# Altium footprint library PAL2.PcbLib: 132 footprints (part 3 of 9)
Each footprint in its own frame and in the unit in brackets; x right, y up, seen from the top. Pads: shape width x height; smd on the part's side, far side on the other; paste and mask are expansions set on the pad; w line width, h text height; cw(c..) or ccw(c..) is an arc to the next point about the centre after c.
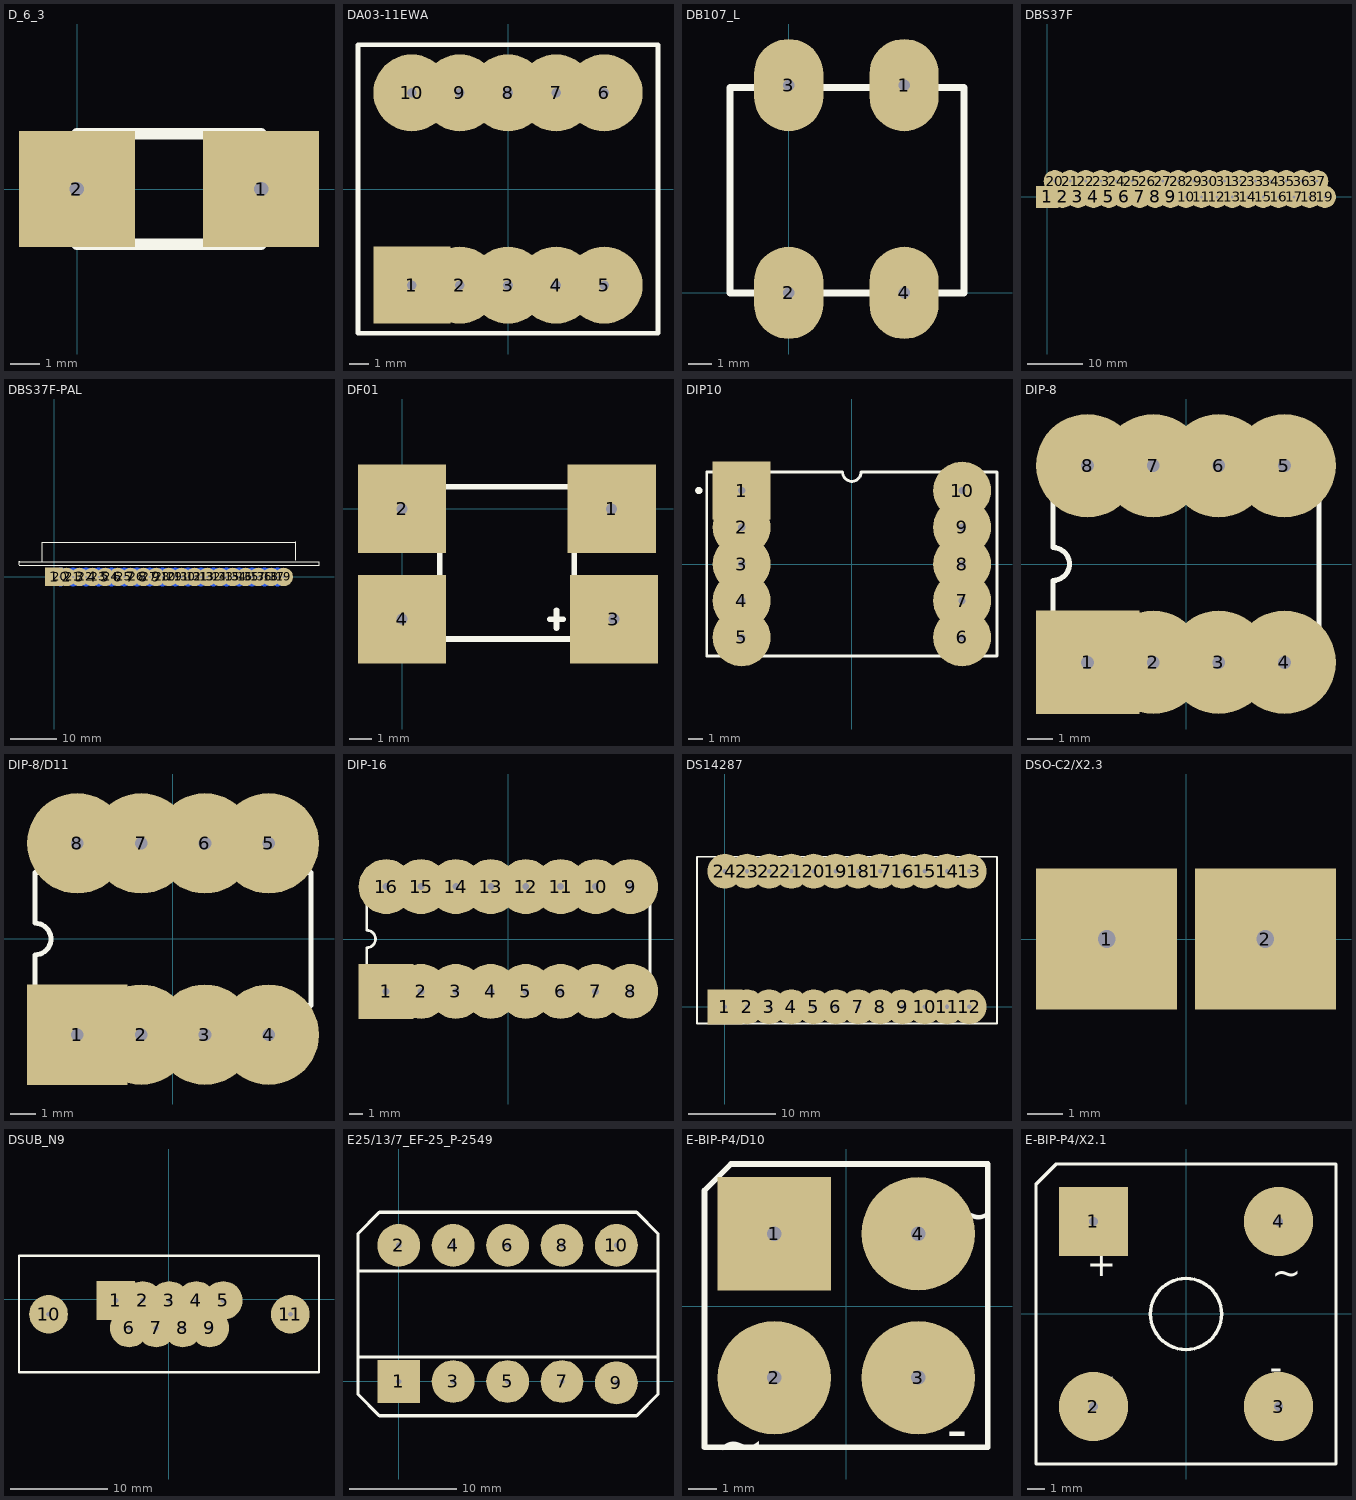
[diagram p2: the footprints below, top view; thin cyan lines are the x and y axes]

## D_6_3 [mm]
pads (2):
  rect 4x4 on Top hole 0.5: 1(6.341,0.006) 2(-0.009,0.006)
Top Overlay:
  lines w0.4: 1.261,-1.899 1.261,1.911 ; -0.009,-1.899 6.341,-1.899 6.341,1.911 -0.009,1.911 -0.009,0.006 -0.009,-1.899

## DA03-11EWA [mm]
pads (10):
  rect 4x4 hole 0.5: 1(-5,-5)
  round 4 hole 0.5: 2(-2.5,-5) 3(0,-5) 4(2.5,-5) 5(5,-5) 6(5,5) 7(2.5,5) 8(0,5) 9(-2.5,5) 10(-5,5)
Top Overlay:
  lines w0.254: -7.8,-7.5 7.8,-7.5 7.8,7.5 -7.8,7.5 -7.8,-7.5

## DB107_L [mm]
pads (4):
  oval 3x4 hole 0.5: 1(5,9) 2(0,0) 3(0,9) 4(5,0)
Top Overlay:
  lines w0.3: -2.55,0 7.6,0 7.6,8.9 -2.55,8.9 -2.55,0

## DBS37F [mm]
pads (37):
  rect 4x4 hole 0.5: 1(0,0)
  round 4 hole 0.5: 2(2.77,0) 3(5.54,0) 4(8.31,0) 5(11.08,0) 6(13.85,0) 7(16.62,0) 8(19.39,0) 9(22.16,0) 10(24.93,0) 11(27.7,0) 12(30.47,0) 13(33.24,0) 14(36.01,0) 15(38.78,0) 16(41.55,0) 17(44.32,0) 18(47.09,0) 19(49.86,0) 20(1.38,2.84) 21(4.15,2.84) 22(6.92,2.84) 23(9.69,2.84) 24(12.46,2.84) 25(15.23,2.84) 26(18,2.84) 27(20.77,2.84) 28(23.54,2.84) 29(26.31,2.84) 30(29.08,2.84) 31(31.85,2.84) 32(34.62,2.84) 33(37.39,2.84) 34(40.16,2.84) 35(42.93,2.84) 36(45.7,2.84) 37(48.47,2.84)

## DBS37F-PAL [mm]
pads (37):
  rect 4x4 on Top hole 0.5: 1(0,0)
  round 4 on Top hole 0.5: 2(2.77,0) 3(5.54,0) 4(8.31,0) 5(11.08,0) 6(13.85,0) 7(16.62,0) 8(19.39,0) 9(22.16,0) 10(24.93,0) 11(27.7,0) 12(30.47,0) 13(33.24,0) 14(36.01,0) 15(38.78,0) 16(41.55,0) 17(44.32,0) 18(47.09,0) 19(49.86,0)
  round 4 on Bottom hole 0.5: 20(1.38,0) 21(4.15,0) 22(6.92,0) 23(9.69,0) 24(12.46,0) 25(15.23,0) 26(18,0) 27(20.77,0) 28(23.54,0) 29(26.31,0) 30(29.08,0) 31(31.85,0) 32(34.62,0) 33(37.39,0) 34(40.16,0) 35(42.93,0) 36(45.7,0) 37(48.47,0)
Top Overlay:
  lines w0.254: -7.6,2.6 -7.6,3.4 -7.5,3.3 57.5,3.3 57.5,2.5 -7.5,2.5 ; -2.6,3.4 -2.6,7.5 52.4,7.5 52.5,7.6 52.5,3.6

## DF01 [mm]
pads (4):
  rect 4x4 on Top hole 0.5: 1(9.496,0.002) 2(-0.004,0.002) 3(9.596,-4.998) 4(-0.004,-4.998)
Top Overlay:
  lines w0.254: 6.696,-4.998 7.296,-4.998 ; 6.996,-5.398 6.996,-4.598 ; 1.696,-5.898 7.796,-5.898 7.796,1.002 1.696,1.002 1.696,-5.898

## DIP10 [mm]
pads (10):
  rect 4x4 hole 0.5: 1(-7.626,5.086)
  round 4 hole 0.5: 2(-7.626,2.546) 3(-7.626,0.006) 4(-7.626,-2.534) 5(-7.626,-5.074) 6(7.614,-5.074) 7(7.614,-2.534) 8(7.614,0.006) 9(7.614,2.546) 10(7.614,5.086)
Top Overlay:
  circle w0.25: c-10.588,5.084 r0.125
  lines w0.2: -10.041,-6.344 -10.041,6.356 -0.641,6.356 ccw(c-0.006,6.356) 0.629,6.356 10.029,6.356 10.029,-6.344 -10.041,-6.344

## DIP-8 [mm]
pads (8):
  rect 4x4 hole 0.5: 1(-3.817,-3.8)
  round 4 hole 0.5: 2(-1.277,-3.8) 3(1.263,-3.8) 4(3.803,-3.8) 5(3.803,3.82) 6(1.263,3.82) 7(-1.277,3.82) 8(-3.817,3.82)
Top Overlay:
  lines w0.2: -5.157,-2.64 5.143,-2.64 5.143,2.66 -5.157,2.66 -5.157,0.645 cw(c-5.157,0.01) -5.157,-0.625 -5.157,-2.64

## DIP-8/D11 [mm]
pads (8):
  rect 4x4 hole 0.5: 1(-3.803,-3.816)
  round 4 hole 0.5: 2(-1.263,-3.816) 3(1.277,-3.816) 4(3.817,-3.816) 5(3.817,3.804) 6(1.277,3.804) 7(-1.263,3.804) 8(-3.803,3.804)
Top Overlay:
  lines w0.2: -5.493,-2.656 -5.493,-0.641 ccw(c-5.493,-0.006) -5.493,0.629 -5.493,2.644 5.507,2.644 5.507,-2.656 -5.493,-2.656

## DIP-16 [mm]
pads (16):
  rect 4x4 hole 0.5: 1(-8.888,-3.802)
  round 4 hole 0.5: 2(-6.348,-3.802) 3(-3.808,-3.802) 4(-1.268,-3.802) 5(1.272,-3.802) 6(3.812,-3.802) 7(6.352,-3.802) 8(8.892,-3.802) 9(8.892,3.818) 10(6.352,3.818) 11(3.812,3.818) 12(1.272,3.818) 13(-1.268,3.818) 14(-3.808,3.818) 15(-6.348,3.818) 16(-8.888,3.818)
Top Overlay:
  lines w0.2: -10.298,-2.642 -10.298,-0.627 ccw(c-10.298,0.008) -10.298,0.643 -10.298,2.658 10.302,2.658 10.302,-2.642 -10.298,-2.642

## DS14287 [mm]
pads (24):
  rect 4x4 hole 0.5: 1(0.009,-0.011)
  round 4 hole 0.5: 2(2.549,-0.011) 3(5.089,-0.011) 4(7.629,-0.011) 5(10.169,-0.011) 6(12.709,-0.011) 7(15.249,-0.011) 8(17.789,-0.011) 9(20.329,-0.011) 10(22.869,-0.011) 11(25.409,-0.011) 12(27.949,-0.011) 13(27.949,15.483) 14(25.409,15.483) 15(22.869,15.483) 16(20.329,15.483) 17(17.789,15.483) 18(15.249,15.483) 19(12.709,15.483) 20(10.169,15.483) 21(7.629,15.483) 22(5.089,15.483) 23(2.549,15.483) 24(0.009,15.483)
Top Overlay:
  lines w0.2: -3.166,-1.916 0.009,-1.916 31.124,-1.916 31.124,17.134 -3.166,17.134 -3.166,-1.916

## DSO-C2/X2.3 [mm]
pads (2):
  rect 4x4 on Top hole 0.5: 1(-2.252,0.001) 2(2.248,0.001)
Top Overlay:
  lines w0.2: -1.202,-1.549 -3.802,-1.549 -3.802,1.551 -1.202,1.551 ; 1.198,-1.549 3.638,-1.549 4.098,-1.099 4.098,1.101 3.648,1.551 ; 1.198,1.551 3.638,1.551

## DSUB_N9 [mm]
pads (11):
  rect 4x4 hole 0.5: 1(-5.481,-0.116)
  round 4 hole 0.5: 2(-2.711,-0.116) 3(0.059,-0.116) 4(2.829,-0.116) 5(5.599,-0.116) 6(-4.096,-2.956) 7(-1.326,-2.956) 8(1.444,-2.956) 9(4.214,-2.956) 10(-12.436,-1.536) 11(12.554,-1.536)
Top Overlay:
  lines w0.254: -15.49,-7.512 15.41,-7.512 15.51,-7.512 15.51,4.488 0.01,4.488 -15.49,4.488 -15.49,-7.512

## E25/13/7_EF-25_P-2549 [mm]
pads (10):
  rect 4x4 hole 0.5: 1(0,0)
  round 4 hole 0.5: 2(0,12.7) 3(5.08,0) 4(5.08,12.7) 5(10.16,0) 6(10.16,12.7) 7(15.24,0) 8(15.24,12.7) 9(20.32,-0.125) 10(20.32,12.7)
Top Overlay:
  lines w0.3: -3.8,2.3 24.2,2.3 ; -3.8,10.3 24.1,10.3 ; -3.8,-1.2 -1.8,-3.2 22.2,-3.2 24.2,-1.2 24.2,13.8 22.2,15.8 -1.8,15.8 -3.8,13.8 -3.8,-1.2

## E-BIP-P4/D10 [mm]
pads (4):
  rect 4x4 hole 0.5: 1(-2.536,2.552)
  round 4 hole 0.5: 2(-2.536,-2.528) 3(2.544,-2.528) 4(2.544,2.552)
Top Overlay:
  lines w0.2: -4.996,-4.988 -4.996,4.076 -4.06,5.012 5.004,5.012 5.004,-4.988 -4.996,-4.988
  text "+" at -4.406,3.176 h1.5
  text "-" at 3.56,-5.068 h1.5
  text "~" at -4.568,-5.576 h1.5
  text "~" at 3.56,2.552 h1.5

## E-BIP-P4/X2.1 [mm]
pads (4):
  rect 4x4 hole 0.5: 1(-5.337,5.325)
  round 4 hole 0.5: 2(-5.337,-5.345) 3(5.333,-5.345) 4(5.333,5.325)
Top Overlay:
  circle w0.2: c-0.002,-0.01 r2.05
  lines w0.2: -8.652,-8.66 8.648,-8.66 8.648,8.64 -7.476,8.64 -8.652,7.464 -8.652,-8.66
  text "~" at -5.725,-4.447 h1.5
  text "~" at 4.943,1.649 h1.5
  text "-" at 4.823,-3.819 h1.5
  text "+" at -5.725,2.157 h1.5